# Altium schematic symbol library SE2435L.Schlib: 1 symbol
Pins are listed as number, name and electrical type; pins without a type are passive.

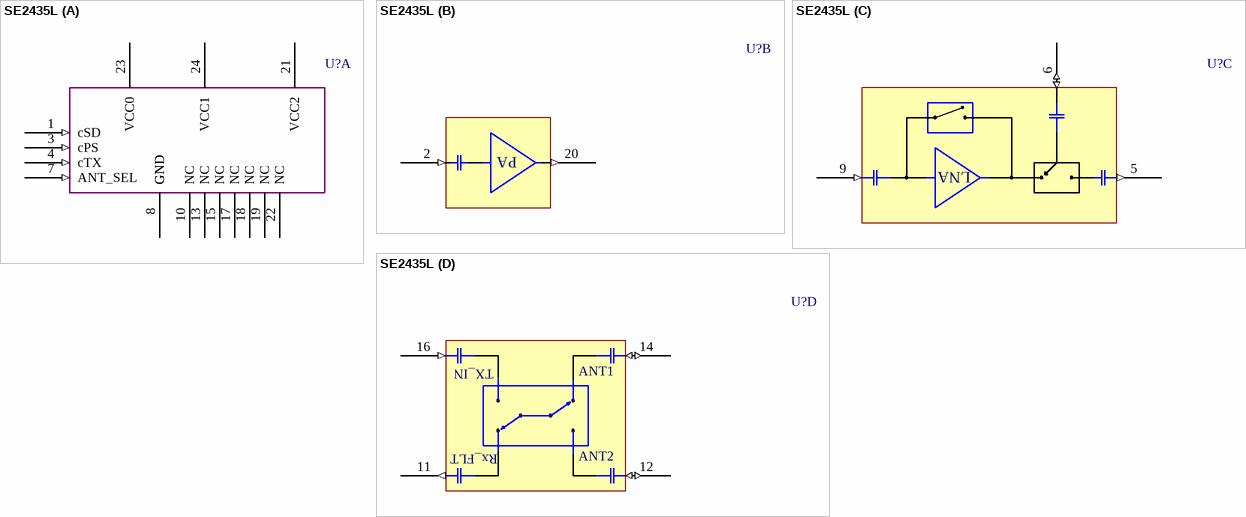
[diagram p0: symbol SE2435L]

## SE2435L
designator U?  (value not drawn)
part A pins: 1 cSD (in), 3 cPS (in), 4 cTX (in), 7 ANT_SEL (in), 8 GND, 10 NC, 13 NC, 15 NC, 17 NC, 18 NC, 19 NC, 21 VCC2, 22 NC, 23 VCC0, 24 VCC1, PAD GND
part B pins: 2 PA_IN (in), 20 PA_OUT (out)
part C pins: 5 TX_FLT (out), 6 TR (io), 9 LNA_IN (in)
part D pins: 11 RX_FLT (out), 12 ANT2 (io), 14 ANT1 (io), 16 TX_IN (in)
part B text: PA
part C text: LNA
part D text: Rx_FLT